# Altium integrated library 150066SV74000_Altium_WL-SBCW_rev20a.IntLib: 5 symbols
Pins are listed as number, name and electrical type; pins without a type are passive.

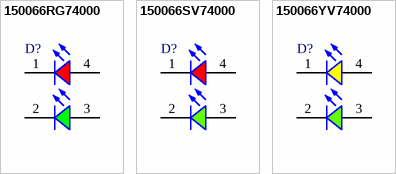
[diagram p0: symbols 150066RG74000 to 150066YV74000]

## 150066RG74000
designator D?
WL-SBCW SMT Bi-color Chip LED Waterclear, size 0606, Red & Green, 130deg; Manufacturer: Wurth Elektronik; Manufacturer Part Number: 150066RG74000; Peak Wavelength: 515nm@Green, 630nm@Red; Forward Voltage: 3.2V@Green, 2V@Red; Dominant Wavelength: 520nm@Green, 625nm@Red; Luminous Intensity: 560mcd@Green, 300mcd@Red; Chip Technology: AlInGaP; ComponentLink1Description: Manufacturer; ComponentLink1URL: http://www.we-online.de; ComponentLink2Description: Datasheet; ComponentLink2URL: https://www.we-online.com/catalog/datasheet/150066RG74000.pdf; Packaging: Tape and Reel; Published Date: October 2020; Size: 0606; Operating Temperature: -40 to +85degC; Emitting Color: Red & Green; Mounting Technology: SMT; Viewing Angle: 130deg
footprint WL-SBCW_0606
pins: 1 K, 2 K, 3 A, 4 A

## 150066SV74000
designator D?
WL-SBCW SMT Bi-color Chip LED Waterclear, size 0606, Super Red & Bright Green, 130deg; Manufacturer: Wurth Elektronik; Manufacturer Part Number: 150066SV74000; Peak Wavelength: 645nm@Super Red, 572nm@Bright Green; Forward Voltage: 2V; Dominant Wavelength: 630nm@Super Red, 570nm@Bright Green; Luminous Intensity: 55mcd@Super Red, 30mcd@Bright Green; Chip Technology: AlInGaP; ComponentLink1Description: Manufacturer; ComponentLink1URL: http://www.we-online.de; ComponentLink2Description: Datasheet; ComponentLink2URL: https://www.we-online.com/catalog/datasheet/150066SV74000.pdf; Packaging: Tape and Reel; Published Date: October 2020; Size: 0606; Operating Temperature: -40 to +85degC; Emitting Color: Super Red & Bright Green; Mounting Technology: SMT; Viewing Angle: 130deg
footprint WL-SBCW_0606 (SMD Bi-color Chip LED Waterclear, body 1.6x1.6mm)
pins: 1 K, 2 K, 3 A, 4 A

## 150066YV74000
designator D?
WL-SBCW SMT Bi-color Chip LED Waterclear, size 0606, Yellow & Bright Green, 130deg; Manufacturer: Wurth Elektronik; Manufacturer Part Number: 150066YV74000; Peak Wavelength: 572nm@Bright Green, 595nm@Yellow; Forward Voltage: 2V; Dominant Wavelength: 570nm@Bright Green, 590nm@Yellow; Luminous Intensity: 30mcd@Bright Green, 120mcd@Yellow; Chip Technology: AlInGaP; ComponentLink1Description: Manufacturer; ComponentLink1URL: http://www.we-online.de; ComponentLink2Description: Datasheet; ComponentLink2URL: https://www.we-online.com/catalog/datasheet/150066YV74000.pdf; Packaging: Tape and Reel; Published Date: October 2020; Size: 0606; Operating Temperature: -40 to +85degC; Emitting Color: Yellow & Bright Green; Mounting Technology: SMT; Viewing Angle: 130deg
footprint WL-SBCW_0606 (SMD Bi-color Chip LED Waterclear, body 1.6x1.6mm)
pins: 1 K, 2 K, 3 A, 4 A


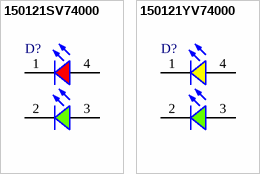
[diagram p1: symbols 150121SV74000 to 150121YV74000]

## 150121SV74000
designator D?
WL-SBCW SMT Bi-color Chip LED Waterclear, size 1210, Super Red & Bright Green, 130deg; Manufacturer: Wurth Elektronik; Manufacturer Part Number: 150121SV74000; Peak Wavelength: 645nm@Super Red, 572nm@Bright Green; Forward Voltage: 2V; Dominant Wavelength: 630nm@Super Red, 570nm@Bright Green; Luminous Intensity: 55mcd@Super Red, 30mcd@Bright Green; Chip Technology: AlInGaP; ComponentLink1Description: Manufacturer; ComponentLink1URL: http://www.we-online.de; ComponentLink2Description: Datasheet; ComponentLink2URL: https://www.we-online.com/catalog/datasheet/150121SV74000.pdf; Packaging: Tape and Reel; Published Date: October 2020; Size: 1210; Operating Temperature: -40 to +85degC; Emitting Color: Super Red & Bright Green; Mounting Technology: SMT; Viewing Angle: 130deg
footprint WL-SBCW_1210 (SMD Bi-color Chip LED Waterclear, body 3.2x2.7mm)
pins: 1 K, 2 K, 3 A, 4 A

## 150121YV74000
designator D?
WL-SBCW SMT Bi-color Chip LED Waterclear, size 1210, Yellow & Bright Green, 130deg; Manufacturer: Wurth Elektronik; Manufacturer Part Number: 150121YV74000; Peak Wavelength: 572nm@Bright Green, 595nm@Yellow; Forward Voltage: 2V; Dominant Wavelength: 570nm@Bright Green, 590nm@Yellow; Luminous Intensity: 40mcd@Bright Green, 120mcd@Yellow; Chip Technology: AlInGaP; ComponentLink1Description: Manufacturer; ComponentLink1URL: http://www.we-online.de; ComponentLink2Description: Datasheet; ComponentLink2URL: https://www.we-online.com/catalog/datasheet/150121YV74000.pdf; Packaging: Tape and Reel; Published Date: October 2020; Size: 1210; Operating Temperature: -40 to +85degC; Emitting Color: Yellow & Bright Green; Mounting Technology: SMT; Viewing Angle: 130deg
footprint WL-SBCW_1210 (SMD Bi-color Chip LED Waterclear, body 3.2x2.7mm)
pins: 1 K, 2 K, 3 A, 4 A